# Altium schematic symbol library PINHEADER-2x1.Schlib: 1 symbol
Pins are listed as number, name and electrical type; pins without a type are passive.

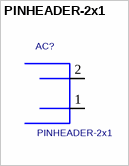
[diagram p0: symbol PINHEADER-2x1]

## PINHEADER-2x1
designator AC?
FastOn Connector
pins: 1, 2